# EAGLE library part MINI-PCIE (library jt-commercial)
Mini PCI-E card
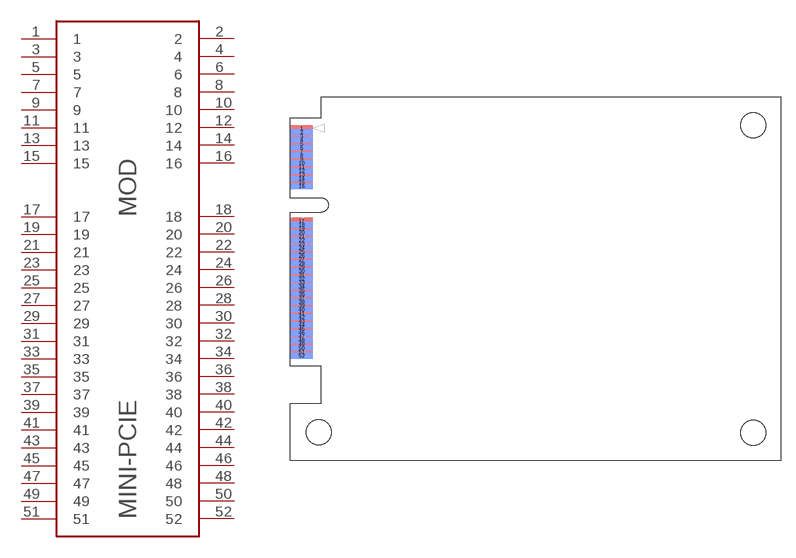
[diagram p0: symbol with the pads of MINI-PCIE; footprint MINI-PCIE]

Designator prefix MOD

## MINI-PCIE-RAW  [MINI-PCIE]
1  1
2  2
3  3
4  4
5  5
6  6
7  7
8  8
9  9
10  10
11  11
12  12
13  13
14  14
15  15
16  16
17  17
18  18
19  19
20  20
21  21
22  22
23  23
24  24
25  25
26  26
27  27
28  28
29  29
30  30
31  31
32  32
33  33
34  34
35  35
36  36
37  37
38  38
39  39
40  40
41  41
42  42
43  43
44  44
45  45
46  46
47  47
48  48
49  49
50  50
51  51
52  52

## Footprint MINI-PCIE (pad centres in mm)
Mini PCI-E card
smd 2.3 x 0.6: 1 1.2,26.8; 3 1.2,26; 5 1.2,25.2; 7 1.2,24.4; 9 1.2,23.6; 11 1.2,22.8; 13 1.2,22; 15 1.2,21.2; 17 1.2,17.2; 19 1.2,16.4; 21 1.2,15.6; 23 1.2,14.8; 25 1.2,14; 27 1.2,13.2; 29 1.2,12.4; 31 1.2,11.6; 33 1.2,10.8; 35 1.2,10; 37 1.2,9.2; 39 1.2,8.4; 41 1.2,7.6; 43 1.2,6.8; 45 1.2,6; 47 1.2,5.2; 49 1.2,4.4; 51 1.2,3.6
smd 2.3 x 0.6 bottom: 2 1.2,26.4; 4 1.2,25.6; 6 1.2,24.8; 8 1.2,24; 10 1.2,23.2; 12 1.2,22.4; 14 1.2,21.6; 16 1.2,20.8; 18 1.2,16.8; 20 1.2,16; 22 1.2,15.2; 24 1.2,14.4; 26 1.2,13.6; 28 1.2,12.8; 30 1.2,12; 32 1.2,11.2; 34 1.2,10.4; 36 1.2,9.6; 38 1.2,8.8; 40 1.2,8; 42 1.2,7.2; 44 1.2,6.4; 46 1.2,5.6; 48 1.2,4.8; 50 1.2,4; 52 1.2,3.2
hole 2.6 at 2.965,-4.72
hole 2.6 at 48.05,27.1
hole 2.6 at 48.05,-4.777